# EAGLE library part LOGIC,MAX5048(FET-DRVR,7.6A/1.3A,12NS) (library QuantumOptics)
MAX5048, Fast FET Driver, Maxim (reluctantly), 7.6A sink, 1.3A source, 12nS propogation delay, SOT23-6. http://pdfserv.maxim-ic.com/en/ds/MAX5048.pdf
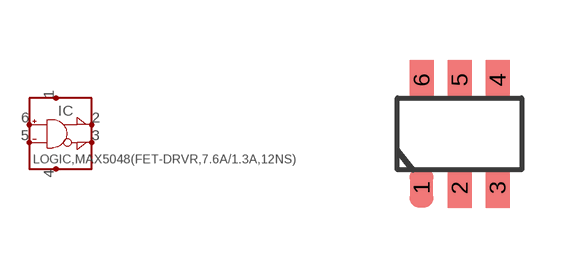
[diagram p57: symbol with the pads of SOT23-6; footprint SOT23-6]

Designator prefix IC

## LOGIC,MAX5048(FET-DRVR,7.6A/1.3A,12NS)  [SOT23-6]
1  VDD
2  Q+
3  Q-
4  COM
5  IN-
6  IN+

## Footprint SOT23-6 (pad centres in mm)
SOT-23 6-pin, on wonderful 0.95mm (~0.037") pad-pad spacing.
smd 0.6 x 1: 1 -0.95,-1.35; 2 0,-1.35; 3 0.95,-1.35; 4 0.95,1.35; 5 0,1.35; 6 -0.95,1.35